# Altium schematic symbol library Schlib_PICO.SchLib: 12 symbols
Pins are listed as number, name and electrical type; pins without a type are passive.

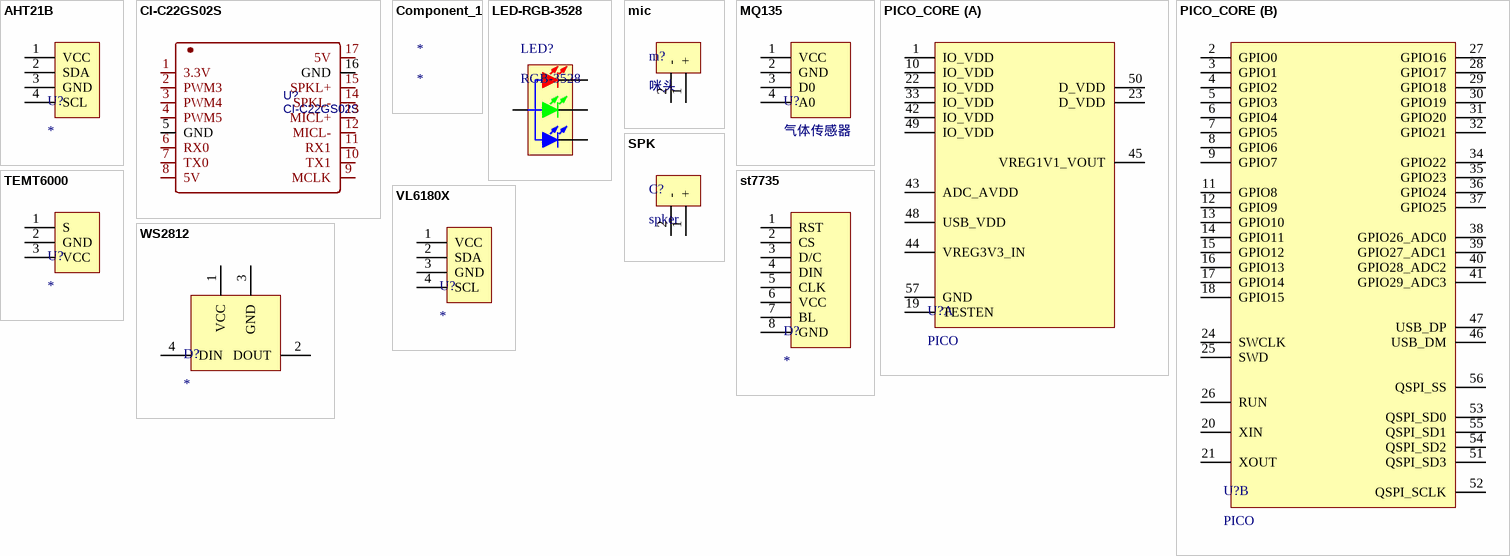
[diagram p0: symbols AHT21B to WS2812]

## AHT21B
designator U?
pins: 1 VCC, 2 SDA, 3 GND, 4 SCL

## CI-C22GS02S
designator U?
BOM_Manufacturer: Chiplntelli(启英泰伦); Contributor: LCSC; BOM_Supplier: LCSC; BOM_Supplier Part: C2759836; BOM_Manufacturer Part: CI-C22GS02S; BOM_JLCPCB Part Class: Extended Part; spicePre: U; spiceSymbolName: CI-C22GS02S
footprint SMD-17_L20.0-W1.80-CI-C22GS02S
pins: 1 3.3V, 2 PWM3, 3 PWM4, 4 PWM5, 5 GND, 6 RX0, 7 TX0, 8 5V, 9 MCLK, 10 TX1, 11 RX1, 12 MICL-, 13 MICL+, 14 SPKL-, 15 SPKL+, 16 GND, 17 5V

## Component_1
designator *

## LED-RGB-3528
designator LED?, comment RGB-3528
三基色LED; 版权归属: 源创客; BOM名称: 三基色LED; 学习资源: www.ooocke.com
footprint LED 3528-4Pin (4脚，3528LED)
pins: 1 RED_K, 2 A, 3 GREEN_K, 4 BULE_K

## mic
designator m?, comment 咪头
pins: 1 +, 2 -

## MQ135
designator U?, comment 气体传感器
pins: 1 VCC, 2 GND, 3 D0, 4 A0

## PICO_CORE
designator U?, comment PICO
part A pins: 1 IO_VDD, 10 IO_VDD, 19 TESTEN, 22 IO_VDD, 23 D_VDD, 33 IO_VDD, 42 IO_VDD, 43 ADC_AVDD, 44 VREG3V3_IN, 45 VREG1V1_VOUT, 48 USB_VDD, 49 IO_VDD, 50 D_VDD, 57 GND
part B pins: 2 GPIO0, 3 GPIO1, 4 GPIO2, 5 GPIO3, 6 GPIO4, 7 GPIO5, 8 GPIO6, 9 GPIO7, 11 GPIO8, 12 GPIO9, 13 GPIO10, 14 GPIO11, 15 GPIO12, 16 GPIO13, 17 GPIO14, 18 GPIO15, 20 XIN, 21 XOUT, 24 SWCLK, 25 SWD, 26 RUN, 27 GPIO16, 28 GPIO17, 29 GPIO18, 30 GPIO19, 31 GPIO20, 32 GPIO21, 34 GPIO22, 35 GPIO23, 36 GPIO24, 37 GPIO25, 38 GPIO26_ADC0, 39 GPIO27_ADC1, 40 GPIO28_ADC2, 41 GPIO29_ADC3, 46 USB_DM, 47 USB_DP, 51 QSPI_SD3, 52 QSPI_SCLK, 53 QSPI_SD0, 54 QSPI_SD2, 55 QSPI_SD1, 56 QSPI_SS

## SPK
designator C?, comment spker
pins: 1 +, 2 -

## st7735
designator D?
pins: 1 RST, 2 CS, 3 D/C, 4 DIN, 5 CLK, 6 VCC, 7 BL, 8 GND

## TEMT6000
designator U?
pins: 1 S, 2 GND, 3 VCC

## VL6180X
designator U?
pins: 1 VCC, 2 SDA, 3 GND, 4 SCL

## WS2812
designator D?
pins: 1 VCC, 2 DOUT, 3 GND, 4 DIN